# Altium footprint library Common-Parts-Library.PcbLib: 530 footprints (part 17 of 34)
Each footprint in its own frame and in the unit in brackets; x right, y up, seen from the top. Pads: shape width x height; smd on the part's side, far side on the other; paste and mask are expansions set on the pad; w line width, h text height; cw(c..) or ccw(c..) is an arc to the next point about the centre after c.
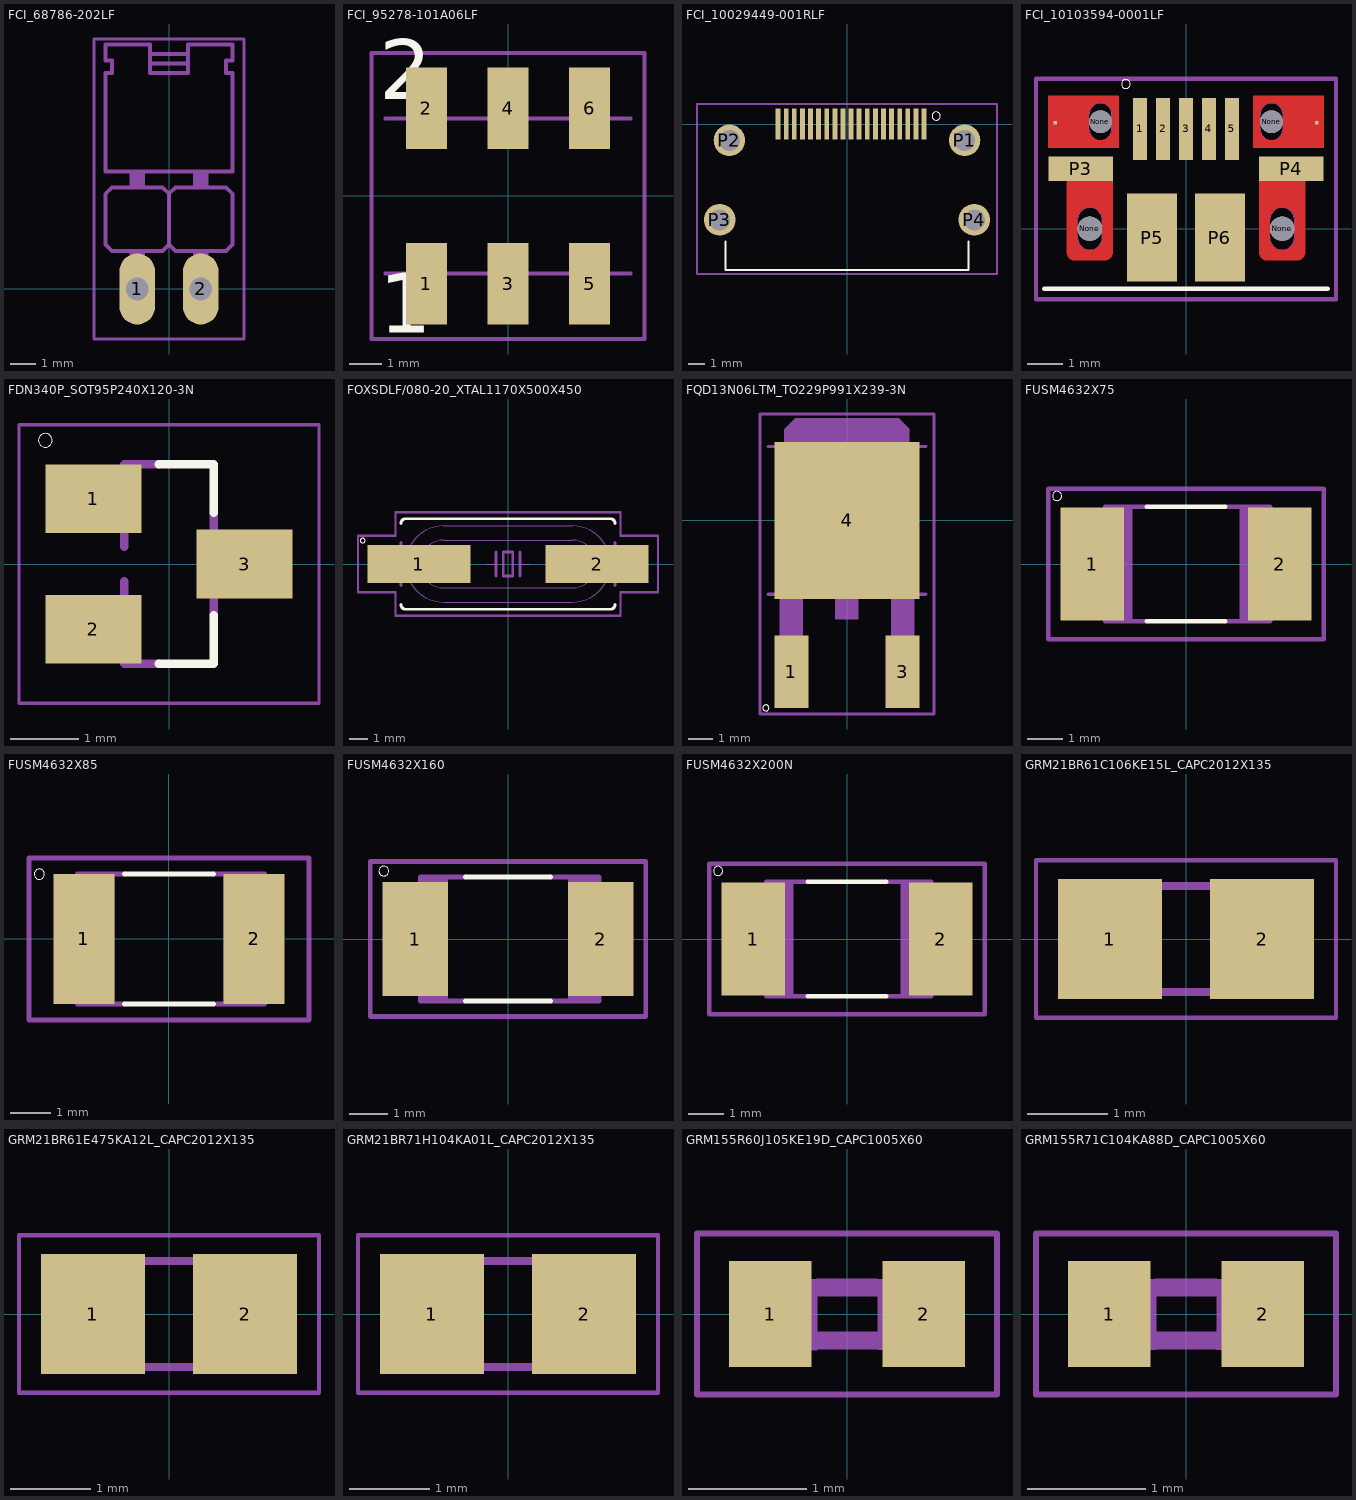
[diagram p16: the footprints below, top view; thin cyan lines are the x and y axes]

## FCI_68786-202LF [mil]
pads (2):
  oval 56x112 hole 36: 1(-50,0) 2(50,0)
Mechanical 1:
  region: 38.1,60 62,60 62,-10.03 38.1,-10.03
  region: -62.06,60 -38,60 -38,-10.01 -62.06,-10.01
  region: -62.16,185 -38,185 -38,160.42 -62.16,160.42
  region: 38.08,185 62,185 62,160.36 38.08,160.36
  lines w5: -118.11,-78.74 -118.11,393.7 118.11,393.7 118.11,-78.74 -118.11,-78.74
  lines w6: -30,355 -30,340 30,340 30,355 ; -30,355 -30,370 ; -30,355 30,355 ; -30,370 30,370 ; -30,370 -30,385 -100,385 -100,360 -90,360 -90,340 -100,340 -100,185 100,185 100,340 90,340 90,360 100,360 100,385 30,385 30,370 ; 0,70 -10,60 -90,60 -100,70 -100,150 -90,160 -10,160 0,150 ; 0,70 10,60 90,60 100,70 100,150 90,160 10,160 0,150 ; 0,70 0,150 ; 30,355 30,370

## FCI_95278-101A06LF [mm]
pads (6):
  rect 1.27x2.54 smd: 1(-2.54,-2.73) 2(-2.54,2.73) 3(0,-2.73) 4(0,2.73) 5(2.54,-2.73) 6(2.54,2.73)
Top Overlay:
  text "2" at -4.009,3.008 h1.88
  text "1" at -4.005,-4.255 h1.88
Mechanical 1:
  lines w0.127: -3.81,-2.415 3.81,-2.415 ; -3.81,2.415 3.81,2.415 ; -4.25,-4.45 -4.25,4.45 4.25,4.45 4.25,-4.45 -4.25,-4.45

## FCI_10029449-001RLF [mm]
pads (23):
  rect 0.3x1.9 smd: 1(4.75,0) 2(4.25,0) 3(3.75,0) 4(3.25,0) 5(2.75,0) 6(2.25,0) 7(1.75,0) 8(1.25,0) 9(0.75,0) 10(0.25,0) 11(-0.25,0) 12(-0.75,0) 13(-1.25,0) 14(-1.75,0) 15(-2.25,0) 16(-2.75,0) 17(-3.25,0) 18(-3.75,0) 19(-4.25,0)
  round 1.95 hole 1.3: P1(7.25,-1) P2(-7.25,-1) P3(-7.85,-5.9) P4(7.85,-5.9)
Top Overlay:
  circle w0: c5.5,0.5 r0.254
  lines w0.127: -7.5,-7.25 -7.5,-9 7.5,-9 7.5,-7.25
Mechanical 1:
  lines w0.127: -9.25,-9.25 -9.25,1.25 9.25,1.25 9.25,-9.25 -9.25,-9.25

## FCI_10103594-0001LF [mm]
pads (15):
  rect 0.4x1.75 smd: 1(-1.3,2.825) 2(-0.65,2.825) 3(0,2.825) 4(0.65,2.825) 5(1.3,2.825)
  round 0.7 hole 0.7 unplated: None(-2.725,0) None(2.725,0)
  round 0.65 hole 0.65 unplated: None(-2.425,3.03) None(2.425,3.03)
  rect 0.1x0.1 smd: P1(-3.7,3) P2(3.7,3)
  rect 1.825x0.7 smd: P3(-2.987,1.7) P4(2.987,1.7)
  rect 1.425x2.5 smd: P5(-0.963,-0.25) P6(0.963,-0.25)
Top Layer:
  region: 2.425,2.5 2.425,2.3 3.9,2.3 3.9,3.76 2.425,3.76 2.425,3.56 2.434,3.56 2.451,3.559 2.468,3.557 2.485,3.555 2.502,3.551 2.519,3.547 2.535,3.541 2.551,3.535 2.567,3.528 2.583,3.52 2.597,3.511 2.612,3.502 2.626,3.492 2.639,3.481 2.652,3.469 2.664,3.457 2.676,3.444 2.687,3.431 2.697,3.417 2.706,3.402 2.715,3.388 2.723,3.372 2.73,3.356 2.736,3.34 2.742,3.324 2.746,3.307 2.75,3.29 2.752,3.273 2.754,3.256 2.755,3.239 2.755,3.23 2.755,3.03 2.755,2.83 2.755,2.821 2.754,2.804 2.752,2.787 2.75,2.77 2.746,2.753 2.742,2.736 2.736,2.72 2.73,2.704 2.723,2.688 2.715,2.672 2.706,2.658 2.697,2.643 2.687,2.629 2.676,2.616 2.664,2.603 2.652,2.591 2.639,2.579 2.626,2.568 2.612,2.558 2.597,2.549 2.583,2.54 2.567,2.532 2.551,2.525 2.535,2.519 2.519,2.513 2.502,2.509 2.485,2.505 2.468,2.503 2.451,2.501 2.434,2.5
  region: 2.425,2.5 2.425,2.3 1.9,2.3 1.9,3.76 2.425,3.76 2.425,3.56 2.416,3.56 2.399,3.559 2.382,3.557 2.365,3.555 2.348,3.551 2.331,3.547 2.315,3.541 2.299,3.535 2.283,3.528 2.267,3.52 2.253,3.511 2.238,3.502 2.224,3.492 2.211,3.481 2.198,3.469 2.186,3.457 2.174,3.444 2.163,3.431 2.153,3.417 2.144,3.402 2.135,3.388 2.127,3.372 2.12,3.356 2.114,3.34 2.108,3.324 2.104,3.307 2.1,3.29 2.098,3.273 2.096,3.256 2.095,3.239 2.095,3.23 2.095,3.03 2.095,2.83 2.095,2.821 2.096,2.804 2.098,2.787 2.1,2.77 2.104,2.753 2.108,2.736 2.114,2.72 2.12,2.704 2.127,2.688 2.135,2.672 2.144,2.658 2.153,2.643 2.163,2.629 2.174,2.616 2.186,2.603 2.198,2.591 2.211,2.579 2.224,2.568 2.238,2.558 2.253,2.549 2.267,2.54 2.283,2.532 2.299,2.525 2.315,2.519 2.331,2.513 2.348,2.509 2.365,2.505 2.382,2.503 2.399,2.501 2.416,2.5
  region: -2.425,3.56 -2.425,3.76 -3.9,3.76 -3.9,2.3 -2.425,2.3 -2.425,2.5 -2.434,2.5 -2.451,2.501 -2.468,2.503 -2.485,2.505 -2.502,2.509 -2.519,2.513 -2.535,2.519 -2.551,2.525 -2.567,2.532 -2.583,2.54 -2.597,2.549 -2.612,2.558 -2.626,2.568 -2.639,2.579 -2.652,2.591 -2.664,2.603 -2.676,2.616 -2.687,2.629 -2.697,2.643 -2.706,2.658 -2.715,2.672 -2.723,2.688 -2.73,2.704 -2.736,2.72 -2.742,2.736 -2.746,2.753 -2.75,2.77 -2.752,2.787 -2.754,2.804 -2.755,2.821 -2.755,2.83 -2.755,3.03 -2.755,3.23 -2.755,3.239 -2.754,3.256 -2.752,3.273 -2.75,3.29 -2.746,3.307 -2.742,3.324 -2.736,3.34 -2.73,3.356 -2.723,3.372 -2.715,3.388 -2.706,3.402 -2.697,3.417 -2.687,3.431 -2.676,3.444 -2.664,3.457 -2.652,3.469 -2.639,3.481 -2.626,3.492 -2.612,3.502 -2.597,3.511 -2.583,3.52 -2.567,3.528 -2.551,3.535 -2.535,3.541 -2.519,3.547 -2.502,3.551 -2.485,3.555 -2.468,3.557 -2.451,3.559 -2.434,3.56
  region: -2.425,3.56 -2.425,3.76 -1.9,3.76 -1.9,2.3 -2.425,2.3 -2.425,2.5 -2.416,2.5 -2.399,2.501 -2.382,2.503 -2.365,2.505 -2.348,2.509 -2.331,2.513 -2.315,2.519 -2.299,2.525 -2.283,2.532 -2.267,2.54 -2.253,2.549 -2.238,2.558 -2.224,2.568 -2.211,2.579 -2.198,2.591 -2.186,2.603 -2.174,2.616 -2.163,2.629 -2.153,2.643 -2.144,2.658 -2.135,2.672 -2.127,2.688 -2.12,2.704 -2.114,2.72 -2.108,2.736 -2.104,2.753 -2.1,2.77 -2.098,2.787 -2.096,2.804 -2.095,2.821 -2.095,2.83 -2.095,3.03 -2.095,3.23 -2.095,3.239 -2.096,3.256 -2.098,3.273 -2.1,3.29 -2.104,3.307 -2.108,3.324 -2.114,3.34 -2.12,3.356 -2.127,3.372 -2.135,3.388 -2.144,3.402 -2.153,3.417 -2.163,3.431 -2.174,3.444 -2.186,3.457 -2.198,3.469 -2.211,3.481 -2.224,3.492 -2.238,3.502 -2.253,3.511 -2.267,3.52 -2.283,3.528 -2.299,3.535 -2.315,3.541 -2.331,3.547 -2.348,3.551 -2.365,3.555 -2.382,3.557 -2.399,3.559 -2.416,3.56
  region: 2.075,1.12 2.075,1.35 2.315,1.35 2.315,1.12
  region: 2.725,-0.605 2.725,-0.9 2.315,-0.9 2.305,-0.9 2.299,-0.9 2.287,-0.899 2.275,-0.898 2.263,-0.896 2.251,-0.894 2.24,-0.891 2.228,-0.887 2.217,-0.883 2.206,-0.878 2.195,-0.872 2.185,-0.866 2.175,-0.86 2.165,-0.853 2.156,-0.845 2.147,-0.837 2.138,-0.828 2.13,-0.819 2.122,-0.81 2.115,-0.8 2.109,-0.79 2.103,-0.78 2.097,-0.769 2.092,-0.758 2.088,-0.747 2.084,-0.735 2.081,-0.724 2.079,-0.712 2.077,-0.7 2.076,-0.688 2.075,-0.676 2.075,-0.67 2.075,1.12 2.075,1.126 2.076,1.138 2.077,1.15 2.079,1.162 2.081,1.174 2.084,1.185 2.088,1.197 2.092,1.208 2.097,1.219 2.103,1.23 2.109,1.24 2.115,1.25 2.122,1.26 2.13,1.269 2.138,1.278 2.147,1.287 2.156,1.295 2.165,1.303 2.175,1.31 2.185,1.316 2.195,1.322 2.206,1.328 2.217,1.333 2.228,1.337 2.24,1.341 2.251,1.344 2.263,1.346 2.275,1.348 2.287,1.349 2.299,1.35 2.305,1.35 2.31,1.35 2.725,1.35 2.725,0.605 2.716,0.605 2.697,0.604 2.679,0.602 2.66,0.599 2.642,0.595 2.624,0.59 2.606,0.585 2.589,0.578 2.572,0.571 2.556,0.562 2.539,0.553 2.524,0.543 2.509,0.532 2.494,0.52 2.481,0.508 2.467,0.494 2.455,0.481 2.443,0.466 2.432,0.451 2.422,0.436 2.413,0.419 2.404,0.403 2.397,0.386 2.39,0.369 2.385,0.351 2.38,0.333 2.376,0.315 2.373,0.296 2.371,0.278 2.37,0.259 2.37,0.25 2.37,0 2.37,-0.25 2.37,-0.259 2.371,-0.278 2.373,-0.296 2.376,-0.315 2.38,-0.333 2.385,-0.351 2.39,-0.369 2.397,-0.386 2.404,-0.403 2.413,-0.419 2.422,-0.436 2.432,-0.451 2.443,-0.466 2.455,-0.481 2.467,-0.494 2.481,-0.508 2.494,-0.52 2.509,-0.532 2.524,-0.543 2.539,-0.553 2.556,-0.562 2.572,-0.571 2.589,-0.578 2.606,-0.585 2.624,-0.59 2.642,-0.595 2.66,-0.599 2.679,-0.602 2.697,-0.604 2.716,-0.605
  region: 2.725,0.605 2.725,1.35 3.375,1.35 3.375,-0.66 3.375,-0.666 3.374,-0.679 3.373,-0.691 3.371,-0.704 3.368,-0.716 3.365,-0.728 3.361,-0.74 3.357,-0.752 3.352,-0.763 3.346,-0.775 3.34,-0.785 3.333,-0.796 3.325,-0.806 3.318,-0.816 3.309,-0.825 3.3,-0.834 3.291,-0.843 3.281,-0.85 3.271,-0.858 3.26,-0.865 3.25,-0.871 3.238,-0.877 3.227,-0.882 3.215,-0.886 3.203,-0.89 3.191,-0.893 3.179,-0.896 3.166,-0.898 3.154,-0.899 3.141,-0.9 3.135,-0.9 2.725,-0.9 2.725,-0.605 2.734,-0.605 2.753,-0.604 2.771,-0.602 2.79,-0.599 2.808,-0.595 2.826,-0.59 2.844,-0.585 2.861,-0.578 2.878,-0.571 2.894,-0.562 2.911,-0.553 2.926,-0.543 2.941,-0.532 2.956,-0.52 2.969,-0.508 2.983,-0.494 2.995,-0.481 3.007,-0.466 3.018,-0.451 3.028,-0.436 3.037,-0.419 3.046,-0.403 3.053,-0.386 3.06,-0.369 3.066,-0.351 3.07,-0.333 3.074,-0.315 3.077,-0.296 3.079,-0.278 3.08,-0.259 3.08,-0.25 3.08,0 3.08,0.25 3.08,0.259 3.079,0.278 3.077,0.296 3.074,0.315 3.07,0.333 3.066,0.351 3.06,0.369 3.053,0.386 3.046,0.403 3.037,0.419 3.028,0.436 3.018,0.451 3.007,0.466 2.995,0.481 2.983,0.494 2.969,0.508 2.956,0.52 2.941,0.532 2.926,0.543 2.911,0.553 2.894,0.562 2.878,0.571 2.861,0.578 2.844,0.585 2.826,0.59 2.808,0.595 2.79,0.599 2.771,0.602 2.753,0.604 2.734,0.605
  region: -3.375,1.12 -3.375,1.35 -3.135,1.35 -3.135,1.12
  region: -2.725,-0.605 -2.725,-0.9 -3.135,-0.9 -3.145,-0.9 -3.151,-0.9 -3.163,-0.899 -3.175,-0.898 -3.187,-0.896 -3.199,-0.894 -3.21,-0.891 -3.222,-0.887 -3.233,-0.883 -3.244,-0.878 -3.255,-0.872 -3.265,-0.866 -3.275,-0.86 -3.285,-0.853 -3.294,-0.845 -3.303,-0.837 -3.312,-0.828 -3.32,-0.819 -3.328,-0.81 -3.335,-0.8 -3.341,-0.79 -3.347,-0.78 -3.353,-0.769 -3.358,-0.758 -3.362,-0.747 -3.366,-0.735 -3.369,-0.724 -3.371,-0.712 -3.373,-0.7 -3.374,-0.688 -3.375,-0.676 -3.375,-0.67 -3.375,1.12 -3.375,1.126 -3.374,1.138 -3.373,1.15 -3.371,1.162 -3.369,1.174 -3.366,1.185 -3.362,1.197 -3.358,1.208 -3.353,1.219 -3.347,1.23 -3.341,1.24 -3.335,1.25 -3.328,1.26 -3.32,1.269 -3.312,1.278 -3.303,1.287 -3.294,1.295 -3.285,1.303 -3.275,1.31 -3.265,1.316 -3.255,1.322 -3.244,1.328 -3.233,1.333 -3.222,1.337 -3.21,1.341 -3.199,1.344 -3.187,1.346 -3.175,1.348 -3.163,1.349 -3.151,1.35 -3.145,1.35 -3.14,1.35 -2.725,1.35 -2.725,0.605 -2.734,0.605 -2.753,0.604 -2.771,0.602 -2.79,0.599 -2.808,0.595 -2.826,0.59 -2.844,0.585 -2.861,0.578 -2.878,0.571 -2.894,0.562 -2.911,0.553 -2.926,0.543 -2.941,0.532 -2.956,0.52 -2.969,0.508 -2.983,0.494 -2.995,0.481 -3.007,0.466 -3.018,0.451 -3.028,0.436 -3.037,0.419 -3.046,0.403 -3.053,0.386 -3.06,0.369 -3.066,0.351 -3.07,0.333 -3.074,0.315 -3.077,0.296 -3.079,0.278 -3.08,0.259 -3.08,0.25 -3.08,0 -3.08,-0.25 -3.08,-0.259 -3.079,-0.278 -3.077,-0.296 -3.074,-0.315 -3.07,-0.333 -3.066,-0.351 -3.06,-0.369 -3.053,-0.386 -3.046,-0.403 -3.037,-0.419 -3.028,-0.436 -3.018,-0.451 -3.007,-0.466 -2.995,-0.481 -2.983,-0.494 -2.969,-0.508 -2.956,-0.52 -2.941,-0.532 -2.926,-0.543 -2.911,-0.553 -2.894,-0.562 -2.878,-0.571 -2.861,-0.578 -2.844,-0.585 -2.826,-0.59 -2.808,-0.595 -2.79,-0.599 -2.771,-0.602 -2.753,-0.604 -2.734,-0.605
  region: -2.725,0.605 -2.725,1.35 -2.075,1.35 -2.075,-0.66 -2.075,-0.666 -2.076,-0.679 -2.077,-0.691 -2.079,-0.704 -2.082,-0.716 -2.085,-0.728 -2.089,-0.74 -2.093,-0.752 -2.098,-0.763 -2.104,-0.775 -2.11,-0.785 -2.117,-0.796 -2.125,-0.806 -2.132,-0.816 -2.141,-0.825 -2.15,-0.834 -2.159,-0.843 -2.169,-0.85 -2.179,-0.858 -2.19,-0.865 -2.2,-0.871 -2.212,-0.877 -2.223,-0.882 -2.235,-0.886 -2.247,-0.89 -2.259,-0.893 -2.271,-0.896 -2.284,-0.898 -2.296,-0.899 -2.309,-0.9 -2.315,-0.9 -2.725,-0.9 -2.725,-0.605 -2.716,-0.605 -2.697,-0.604 -2.679,-0.602 -2.66,-0.599 -2.642,-0.595 -2.624,-0.59 -2.606,-0.585 -2.589,-0.578 -2.572,-0.571 -2.556,-0.562 -2.539,-0.553 -2.524,-0.543 -2.509,-0.532 -2.494,-0.52 -2.481,-0.508 -2.467,-0.494 -2.455,-0.481 -2.443,-0.466 -2.432,-0.451 -2.422,-0.436 -2.413,-0.419 -2.404,-0.403 -2.397,-0.386 -2.39,-0.369 -2.385,-0.351 -2.38,-0.333 -2.376,-0.315 -2.373,-0.296 -2.371,-0.278 -2.37,-0.259 -2.37,-0.25 -2.37,0 -2.37,0.25 -2.37,0.259 -2.371,0.278 -2.373,0.296 -2.376,0.315 -2.38,0.333 -2.385,0.351 -2.39,0.369 -2.397,0.386 -2.404,0.403 -2.413,0.419 -2.422,0.436 -2.432,0.451 -2.443,0.466 -2.455,0.481 -2.467,0.494 -2.481,0.508 -2.494,0.52 -2.509,0.532 -2.524,0.543 -2.539,0.553 -2.556,0.562 -2.572,0.571 -2.589,0.578 -2.606,0.585 -2.624,0.59 -2.642,0.595 -2.66,0.599 -2.679,0.602 -2.697,0.604 -2.716,0.605
Top Overlay:
  circle w0: c-1.7,4.1 r0.127
  lines w0.127: -4.02,-1.7 4.02,-1.7
Top Paste:
  region: 1.903,3.76 3.9,3.76 3.9,2.304 1.903,2.304
  region: -3.907,3.76 -1.9,3.76 -1.9,2.304 -3.907,2.304
  region: 2.082,1.35 3.375,1.35 3.375,-0.903 2.082,-0.903
  region: -3.376,1.35 -2.075,1.35 -2.075,-0.9 -3.376,-0.9
Top Solder:
  region: 1.805,3.85 4,3.85 4,2.206 1.805,2.206
  region: -4.01,3.85 -1.8,3.85 -1.8,2.206 -4.01,2.206
  region: 1.977,1.25 3.475,1.25 3.475,-1.001 1.977,-1.001
  region: -3.483,1.25 -1.975,1.25 -1.975,-1.002 -3.483,-1.002
Mechanical 1:
  lines w0.01: -3.075,-0.25 ccw(c-2.725,-0.25) -2.725,-0.6 ccw(c-2.725,-0.25) -2.375,-0.25 -2.375,0.25 ccw(c-2.725,0.25) -2.725,0.6 ccw(c-2.725,0.25) -3.075,0.25 -3.075,-0.25 ; -2.75,2.83 ccw(c-2.425,2.83) -2.425,2.505 ccw(c-2.425,2.83) -2.1,2.83 -2.1,3.23 ccw(c-2.425,3.23) -2.425,3.555 ccw(c-2.425,3.23) -2.75,3.23 -2.75,2.83 ; 2.1,2.83 ccw(c2.425,2.83) 2.425,2.505 ccw(c2.425,2.83) 2.75,2.83 2.75,3.23 ccw(c2.425,3.23) 2.425,3.555 ccw(c2.425,3.23) 2.1,3.23 2.1,2.83 ; 2.375,-0.25 ccw(c2.725,-0.25) 2.725,-0.6 ccw(c2.725,-0.25) 3.075,-0.25 3.075,0.25 ccw(c2.725,0.25) 2.725,0.6 ccw(c2.725,0.25) 2.375,0.25 2.375,-0.25
  lines w0.127: -4.25,-2 -4.25,4.25 4.25,4.25 4.25,-2 -4.25,-2

## FDN340P_SOT95P240X120-3N [mm]
pads (3):
  rect 1.4x1 smd: 1(-1.1,0.95) 2(-1.1,-0.95) 3(1.1,0)
Top Overlay:
  circle w0: c-1.8,1.8 r0.1
  lines w0.127: -0.15,-1.45 0.65,-1.45 0.65,-0.75 ; -0.15,1.45 0.65,1.45 0.65,0.75
Mechanical 1:
  region: -0.713,1.17 -0.713,0.711 -1.296,0.711 -1.296,1.17
  region: -0.711,-0.711 -0.711,-1.17 -1.297,-1.17 -1.297,-0.711
  region: 1.296,0.228 1.296,-0.228 0.711,-0.228 0.711,0.228
  lines w0.051: -2.183,-2.023 2.183,-2.023 2.183,2.023 -2.183,2.023 -2.183,-2.023
  lines w0.127: -0.65,-0.25 -0.65,-1.45 -0.15,-1.45 ; -0.65,0.25 -0.65,1.45 -0.15,1.45 ; 0.65,-0.75 0.65,0.75

## FOXSDLF/080-20_XTAL1170X500X450 [mm]
pads (2):
  rect 5.5x2 smd: 1(-4.75,0) 2(4.75,0)
Top Overlay:
  circle w0: c-7.75,1.25 r0.127
  lines w0.152: -5.715,-2.159 ccw(c-5.461,-2.159) -5.461,-2.413 5.461,-2.413 ccw(c5.461,-2.159) 5.715,-2.159 ; -5.715,2.159 cw(c-5.461,2.159) -5.461,2.413 5.461,2.413 cw(c5.461,2.159) 5.715,2.159
Mechanical 1:
  lines w0.051: -5.114,-1.136 ccw(c-3.429,0) -3.429,-2.032 3.429,-2.032 ccw(c3.429,0) 5.113,-1.136 ccw(c3.429,0) 5.114,1.136 ; -5.114,-1.136 cw(c-3.429,0) -5.114,1.136 cw(c-3.429,0) -3.429,2.032 3.429,2.032 cw(c3.429,0) 5.114,1.136 ; -1.143,0 -0.635,0 ; 0.635,0 1.143,0 ; -3.986,-1.141 cw(c-3.429,0) -3.986,1.141 cw(c-3.429,0) -3.429,1.27 3.429,1.27 cw(c3.429,0) 3.986,1.141 cw(c3.429,0) 3.986,-1.141 cw(c3.429,0) 3.429,-1.27 -3.429,-1.27 cw(c-3.429,0) -3.986,-1.141
  lines w0.127: -8,-1.5 -6,-1.5 -6,-2.75 6,-2.75 6,-1.5 8,-1.5 8,1.5 6,1.5 6,2.75 -6,2.75 -6,1.5 -8,1.5 -8,-1.5
  lines w0.152: -5.715,-1.143 -5.715,1.143 ; -5.715,-0.381 -6.477,-0.381 -6.477,0.381 -5.715,0.381 ; -0.635,-0.635 -0.635,0 -0.635,0.635 ; 0.635,-0.635 0.635,0 0.635,0.635 ; 5.715,-1.143 5.715,-0.381 ; 5.715,1.143 5.715,0.381 ; 5.715,-0.381 6.477,-0.381 6.477,0.381 5.715,0.381 ; 5.715,-0.381 5.715,0.381 ; -0.254,-0.635 0.254,-0.635 0.254,0.635 -0.254,0.635 -0.254,-0.635

## FQD13N06LTM_TO229P991X239-3N [mm]
pads (3):
  rect 1.4x3 smd: 1(-2.3,-6.25) 3(2.3,-6.25)
  rect 6x6.5 smd: 4(0,0)
Top Overlay:
  circle w0: c-3.35,-7.75 r0.127
Mechanical 1:
  region: -2.565,3.05 -2.565,3.761 -2.108,4.218 2.108,4.218 2.565,3.761 2.565,3.05
  region: -0.476,-3.05 0.475,-3.05 0.475,-4.081 -0.476,-4.081
  region: 1.828,-3.05 2.775,-3.05 2.775,-5.961 1.828,-5.961
  region: -2.779,-3.05 -1.825,-3.05 -1.825,-5.96 -2.779,-5.96
  lines w0: -2.565,3.05 2.565,3.05 2.565,3.761 2.108,4.218 -2.108,4.218 -2.565,3.761 -2.565,3.05
  lines w0.127: -3.27,-3.05 3.27,-3.05 ; -3.27,3.05 3.27,3.05 ; -3.6,-8 3.6,-8 3.6,4.4 -3.6,4.4 -3.6,-8

## FUSM4632X75 [mm]
pads (2):
  rect 1.78x3.15 smd: 1(-2.615,0) 2(2.615,0)
Top Overlay:
  circle w0: c-3.6,1.9 r0.127
  lines w0.127: -1.1,-1.6 1.1,-1.6 ; -1.1,1.6 1.1,1.6
Mechanical 1:
  region: 1.5,1.6 1.5,-1.6 2.35,-1.6 2.35,-0.5 2.337,-0.5 2.311,-0.499 2.285,-0.496 2.259,-0.492 2.233,-0.486 2.208,-0.48 2.183,-0.471 2.159,-0.462 2.135,-0.451 2.111,-0.44 2.089,-0.426 2.067,-0.412 2.046,-0.397 2.025,-0.38 2.006,-0.363 1.987,-0.344 1.97,-0.325 1.953,-0.304 1.938,-0.283 1.924,-0.261 1.91,-0.239 1.899,-0.215 1.888,-0.191 1.879,-0.167 1.87,-0.142 1.864,-0.117 1.858,-0.091 1.854,-0.065 1.851,-0.039 1.85,-0.013 1.85,0 1.85,0.013 1.851,0.039 1.854,0.065 1.858,0.091 1.864,0.117 1.87,0.142 1.879,0.167 1.888,0.191 1.899,0.215 1.91,0.239 1.924,0.261 1.938,0.283 1.953,0.304 1.97,0.325 1.987,0.344 2.006,0.363 2.025,0.38 2.046,0.397 2.067,0.412 2.089,0.426 2.111,0.44 2.135,0.451 2.159,0.462 2.183,0.471 2.208,0.48 2.233,0.486 2.259,0.492 2.285,0.496 2.311,0.499 2.337,0.5 2.35,0.5 2.35,1.6
  region: -1.5,1.6 -2.25,1.6 -2.25,0.5 -2.237,0.5 -2.211,0.499 -2.185,0.496 -2.159,0.492 -2.133,0.486 -2.108,0.48 -2.083,0.471 -2.059,0.462 -2.035,0.451 -2.011,0.44 -1.989,0.426 -1.967,0.412 -1.946,0.397 -1.925,0.38 -1.906,0.363 -1.887,0.344 -1.87,0.325 -1.853,0.304 -1.838,0.283 -1.824,0.261 -1.81,0.239 -1.799,0.215 -1.788,0.191 -1.779,0.167 -1.77,0.142 -1.764,0.117 -1.758,0.091 -1.754,0.065 -1.751,0.039 -1.75,0.013 -1.75,0 -1.75,-0.013 -1.751,-0.039 -1.754,-0.065 -1.758,-0.091 -1.764,-0.117 -1.77,-0.142 -1.779,-0.167 -1.788,-0.191 -1.799,-0.215 -1.81,-0.239 -1.824,-0.261 -1.838,-0.283 -1.853,-0.304 -1.87,-0.325 -1.887,-0.344 -1.906,-0.363 -1.925,-0.38 -1.946,-0.397 -1.967,-0.412 -1.989,-0.426 -2.011,-0.44 -2.035,-0.451 -2.059,-0.462 -2.083,-0.471 -2.108,-0.48 -2.133,-0.486 -2.159,-0.492 -2.185,-0.496 -2.211,-0.499 -2.237,-0.5 -2.25,-0.5 -2.25,-1.6 -1.5,-1.6
  lines w0.127: -1.1,-1.6 -2.25,-1.6 -2.25,-0.5 ccw(c-2.25,0) -2.25,0.5 -2.25,1.6 -1.1,1.6 ; 1.1,-1.6 2.35,-1.6 2.35,-0.5 cw(c2.35,0) 2.35,0.5 2.35,1.6 1.1,1.6 ; -3.85,-2.1 3.85,-2.1 3.85,2.1 -3.85,2.1 -3.85,-2.1

## FUSM4632X85 [mm]
pads (2):
  rect 1.5x3.2 smd: 1(-2.1,0) 2(2.1,0)
Top Overlay:
  circle w0: c-3.2,1.6 r0.127
  lines w0.127: -1.1,-1.6 1.1,-1.6 ; -1.1,1.6 1.1,1.6
Mechanical 1:
  region: 1.35,1.6 1.35,-1.6 2.35,-1.6 2.35,-0.5 2.337,-0.5 2.311,-0.499 2.285,-0.496 2.259,-0.492 2.233,-0.486 2.208,-0.48 2.183,-0.471 2.159,-0.462 2.135,-0.451 2.111,-0.44 2.089,-0.426 2.067,-0.412 2.046,-0.397 2.025,-0.38 2.006,-0.363 1.987,-0.344 1.97,-0.325 1.953,-0.304 1.938,-0.283 1.924,-0.261 1.91,-0.239 1.899,-0.215 1.888,-0.191 1.879,-0.167 1.87,-0.142 1.864,-0.117 1.858,-0.091 1.854,-0.065 1.851,-0.039 1.85,-0.013 1.85,0 1.85,0.013 1.851,0.039 1.854,0.065 1.858,0.091 1.864,0.117 1.87,0.142 1.879,0.167 1.888,0.191 1.899,0.215 1.91,0.239 1.924,0.261 1.938,0.283 1.953,0.304 1.97,0.325 1.987,0.344 2.006,0.363 2.025,0.38 2.046,0.397 2.067,0.412 2.089,0.426 2.111,0.44 2.135,0.451 2.159,0.462 2.183,0.471 2.208,0.48 2.233,0.486 2.259,0.492 2.285,0.496 2.311,0.499 2.337,0.5 2.35,0.5 2.35,1.6
  region: -1.35,1.6 -2.25,1.6 -2.25,0.5 -2.237,0.5 -2.211,0.499 -2.185,0.496 -2.159,0.492 -2.133,0.486 -2.108,0.48 -2.083,0.471 -2.059,0.462 -2.035,0.451 -2.011,0.44 -1.989,0.426 -1.967,0.412 -1.946,0.397 -1.925,0.38 -1.906,0.363 -1.887,0.344 -1.87,0.325 -1.853,0.304 -1.838,0.283 -1.824,0.261 -1.81,0.239 -1.799,0.215 -1.788,0.191 -1.779,0.167 -1.77,0.142 -1.764,0.117 -1.758,0.091 -1.754,0.065 -1.751,0.039 -1.75,0.013 -1.75,0 -1.75,-0.013 -1.751,-0.039 -1.754,-0.065 -1.758,-0.091 -1.764,-0.117 -1.77,-0.142 -1.779,-0.167 -1.788,-0.191 -1.799,-0.215 -1.81,-0.239 -1.824,-0.261 -1.838,-0.283 -1.853,-0.304 -1.87,-0.325 -1.887,-0.344 -1.906,-0.363 -1.925,-0.38 -1.946,-0.397 -1.967,-0.412 -1.989,-0.426 -2.011,-0.44 -2.035,-0.451 -2.059,-0.462 -2.083,-0.471 -2.108,-0.48 -2.133,-0.486 -2.159,-0.492 -2.185,-0.496 -2.211,-0.499 -2.237,-0.5 -2.25,-0.5 -2.25,-1.6 -1.35,-1.6
  lines w0.127: -1.1,-1.6 -2.25,-1.6 -2.25,-0.5 ccw(c-2.25,0) -2.25,0.5 -2.25,1.6 -1.1,1.6 ; 1.1,-1.6 2.35,-1.6 2.35,-0.5 cw(c2.35,0) 2.35,0.5 2.35,1.6 1.1,1.6 ; -3.45,-2 3.45,-2 3.45,2 -3.45,2 -3.45,-2

## FUSM4632X160 [mm]
pads (2):
  rect 1.68x2.95 smd: 1(-2.39,0) 2(2.39,0)
Top Overlay:
  circle w0: c-3.2,1.75 r0.127
  lines w0.127: -1.1,-1.6 1.1,-1.6 ; -1.1,1.6 1.1,1.6
Mechanical 1:
  region: 1.55,1.6 1.55,-1.6 2.35,-1.6 2.35,-0.5 2.337,-0.5 2.311,-0.499 2.285,-0.496 2.259,-0.492 2.233,-0.486 2.208,-0.48 2.183,-0.471 2.159,-0.462 2.135,-0.451 2.111,-0.44 2.089,-0.426 2.067,-0.412 2.046,-0.397 2.025,-0.38 2.006,-0.363 1.987,-0.344 1.97,-0.325 1.953,-0.304 1.938,-0.283 1.924,-0.261 1.91,-0.239 1.899,-0.215 1.888,-0.191 1.879,-0.167 1.87,-0.142 1.864,-0.117 1.858,-0.091 1.854,-0.065 1.851,-0.039 1.85,-0.013 1.85,0 1.85,0.013 1.851,0.039 1.854,0.065 1.858,0.091 1.864,0.117 1.87,0.142 1.879,0.167 1.888,0.191 1.899,0.215 1.91,0.239 1.924,0.261 1.938,0.283 1.953,0.304 1.97,0.325 1.987,0.344 2.006,0.363 2.025,0.38 2.046,0.397 2.067,0.412 2.089,0.426 2.111,0.44 2.135,0.451 2.159,0.462 2.183,0.471 2.208,0.48 2.233,0.486 2.259,0.492 2.285,0.496 2.311,0.499 2.337,0.5 2.35,0.5 2.35,1.6
  region: -1.55,1.6 -2.25,1.6 -2.25,0.5 -2.237,0.5 -2.211,0.499 -2.185,0.496 -2.159,0.492 -2.133,0.486 -2.108,0.48 -2.083,0.471 -2.059,0.462 -2.035,0.451 -2.011,0.44 -1.989,0.426 -1.967,0.412 -1.946,0.397 -1.925,0.38 -1.906,0.363 -1.887,0.344 -1.87,0.325 -1.853,0.304 -1.838,0.283 -1.824,0.261 -1.81,0.239 -1.799,0.215 -1.788,0.191 -1.779,0.167 -1.77,0.142 -1.764,0.117 -1.758,0.091 -1.754,0.065 -1.751,0.039 -1.75,0.013 -1.75,0 -1.75,-0.013 -1.751,-0.039 -1.754,-0.065 -1.758,-0.091 -1.764,-0.117 -1.77,-0.142 -1.779,-0.167 -1.788,-0.191 -1.799,-0.215 -1.81,-0.239 -1.824,-0.261 -1.838,-0.283 -1.853,-0.304 -1.87,-0.325 -1.887,-0.344 -1.906,-0.363 -1.925,-0.38 -1.946,-0.397 -1.967,-0.412 -1.989,-0.426 -2.011,-0.44 -2.035,-0.451 -2.059,-0.462 -2.083,-0.471 -2.108,-0.48 -2.133,-0.486 -2.159,-0.492 -2.185,-0.496 -2.211,-0.499 -2.237,-0.5 -2.25,-0.5 -2.25,-1.6 -1.55,-1.6
  lines w0.127: -1.1,-1.6 -2.25,-1.6 -2.25,-0.5 ccw(c-2.25,0) -2.25,0.5 -2.25,1.6 -1.1,1.6 ; 1.1,-1.6 2.35,-1.6 2.35,-0.5 cw(c2.35,0) 2.35,0.5 2.35,1.6 1.1,1.6 ; -3.55,-2 3.55,-2 3.55,2 -3.55,2 -3.55,-2

## FUSM4632X200N [mm]
pads (2):
  rect 1.78x3.15 smd: 1(-2.615,0) 2(2.615,0)
Top Overlay:
  circle w0: c-3.6,1.9 r0.127
  lines w0.127: -1.1,-1.6 1.1,-1.6 ; -1.1,1.6 1.1,1.6
Mechanical 1:
  region: 1.5,1.6 1.5,-1.6 2.35,-1.6 2.35,-0.5 2.337,-0.5 2.311,-0.499 2.285,-0.496 2.259,-0.492 2.233,-0.486 2.208,-0.48 2.183,-0.471 2.159,-0.462 2.135,-0.451 2.111,-0.44 2.089,-0.426 2.067,-0.412 2.046,-0.397 2.025,-0.38 2.006,-0.363 1.987,-0.344 1.97,-0.325 1.953,-0.304 1.938,-0.283 1.924,-0.261 1.91,-0.239 1.899,-0.215 1.888,-0.191 1.879,-0.167 1.87,-0.142 1.864,-0.117 1.858,-0.091 1.854,-0.065 1.851,-0.039 1.85,-0.013 1.85,0 1.85,0.013 1.851,0.039 1.854,0.065 1.858,0.091 1.864,0.117 1.87,0.142 1.879,0.167 1.888,0.191 1.899,0.215 1.91,0.239 1.924,0.261 1.938,0.283 1.953,0.304 1.97,0.325 1.987,0.344 2.006,0.363 2.025,0.38 2.046,0.397 2.067,0.412 2.089,0.426 2.111,0.44 2.135,0.451 2.159,0.462 2.183,0.471 2.208,0.48 2.233,0.486 2.259,0.492 2.285,0.496 2.311,0.499 2.337,0.5 2.35,0.5 2.35,1.6
  region: -1.5,1.6 -2.25,1.6 -2.25,0.5 -2.237,0.5 -2.211,0.499 -2.185,0.496 -2.159,0.492 -2.133,0.486 -2.108,0.48 -2.083,0.471 -2.059,0.462 -2.035,0.451 -2.011,0.44 -1.989,0.426 -1.967,0.412 -1.946,0.397 -1.925,0.38 -1.906,0.363 -1.887,0.344 -1.87,0.325 -1.853,0.304 -1.838,0.283 -1.824,0.261 -1.81,0.239 -1.799,0.215 -1.788,0.191 -1.779,0.167 -1.77,0.142 -1.764,0.117 -1.758,0.091 -1.754,0.065 -1.751,0.039 -1.75,0.013 -1.75,0 -1.75,-0.013 -1.751,-0.039 -1.754,-0.065 -1.758,-0.091 -1.764,-0.117 -1.77,-0.142 -1.779,-0.167 -1.788,-0.191 -1.799,-0.215 -1.81,-0.239 -1.824,-0.261 -1.838,-0.283 -1.853,-0.304 -1.87,-0.325 -1.887,-0.344 -1.906,-0.363 -1.925,-0.38 -1.946,-0.397 -1.967,-0.412 -1.989,-0.426 -2.011,-0.44 -2.035,-0.451 -2.059,-0.462 -2.083,-0.471 -2.108,-0.48 -2.133,-0.486 -2.159,-0.492 -2.185,-0.496 -2.211,-0.499 -2.237,-0.5 -2.25,-0.5 -2.25,-1.6 -1.5,-1.6
  lines w0.127: -1.1,-1.6 -2.25,-1.6 -2.25,-0.5 ccw(c-2.25,0) -2.25,0.5 -2.25,1.6 -1.1,1.6 ; 1.1,-1.6 2.35,-1.6 2.35,-0.5 cw(c2.35,0) 2.35,0.5 2.35,1.6 1.1,1.6 ; -3.85,-2.1 3.85,-2.1 3.85,2.1 -3.85,2.1 -3.85,-2.1

## GRM21BR61C106KE15L_CAPC2012X135 [mm]
pads (2):
  rect 1.3x1.5 smd: 1(-0.95,0) 2(0.95,0)
Mechanical 1:
  region: 0.357,0.726 1.106,0.726 1.106,-0.726 0.357,-0.726
  region: -1.093,0.726 -0.342,0.726 -0.342,-0.725 -1.093,-0.725
  lines w0.051: -1.873,-0.983 -1.873,0.983 1.873,0.983 1.873,-0.983 -1.873,-0.983
  lines w0.102: -0.381,0.66 0.381,0.66 ; -0.356,-0.66 0.381,-0.66

## GRM21BR61E475KA12L_CAPC2012X135 [mm]
pads (2):
  rect 1.3x1.5 smd: 1(-0.95,0) 2(0.95,0)
Mechanical 1:
  region: 0.356,0.726 1.106,0.726 1.106,-0.725 0.356,-0.725
  region: -1.093,0.726 -0.342,0.726 -0.342,-0.724 -1.093,-0.724
  lines w0.051: -1.873,-0.983 -1.873,0.983 1.873,0.983 1.873,-0.983 -1.873,-0.983
  lines w0.102: -0.381,0.66 0.381,0.66 ; -0.356,-0.66 0.381,-0.66

## GRM21BR71H104KA01L_CAPC2012X135 [mm]
pads (2):
  rect 1.3x1.5 smd: 1(-0.95,0) 2(0.95,0)
Mechanical 1:
  region: 0.356,0.726 1.106,0.726 1.106,-0.725 0.356,-0.725
  region: -1.095,0.726 -0.342,0.726 -0.342,-0.726 -1.095,-0.726
  lines w0.051: -1.873,-0.983 -1.873,0.983 1.873,0.983 1.873,-0.983 -1.873,-0.983
  lines w0.102: -0.381,0.66 0.381,0.66 ; -0.356,-0.66 0.381,-0.66

## GRM155R60J105KE19D_CAPC1005X60 [mm]
pads (2):
  rect 0.7x0.9 smd: 1(-0.65,0) 2(0.65,0)
Mechanical 1:
  region: 0.259,0.295 0.559,0.295 0.559,-0.305 0.259,-0.305
  region: -0.555,0.295 -0.254,0.295 -0.254,-0.306 -0.555,-0.306
  lines w0.051: -1.273,-0.683 -1.273,0.683 1.273,0.683 1.273,-0.683 -1.273,-0.683
  lines w0.152: -0.245,-0.224 0.245,-0.224 ; -0.245,0.224 0.245,0.224

## GRM155R71C104KA88D_CAPC1005X60 [mm]
pads (2):
  rect 0.7x0.9 smd: 1(-0.65,0) 2(0.65,0)
Mechanical 1:
  region: 0.259,0.295 0.559,0.295 0.559,-0.305 0.259,-0.305
  region: -0.555,0.295 -0.254,0.295 -0.254,-0.305 -0.555,-0.305
  lines w0.051: -1.273,-0.683 -1.273,0.683 1.273,0.683 1.273,-0.683 -1.273,-0.683
  lines w0.152: -0.245,-0.224 0.245,-0.224 ; -0.245,0.224 0.245,0.224